# Altium footprint library uSD.PcbLib: 1 footprints
Each footprint in its own frame and in the unit in brackets; x right, y up, seen from the top. Pads: shape width x height; smd on the part's side, far side on the other; paste and mask are expansions set on the pad; w line width, h text height; cw(c..) or ccw(c..) is an arc to the next point about the centre after c.
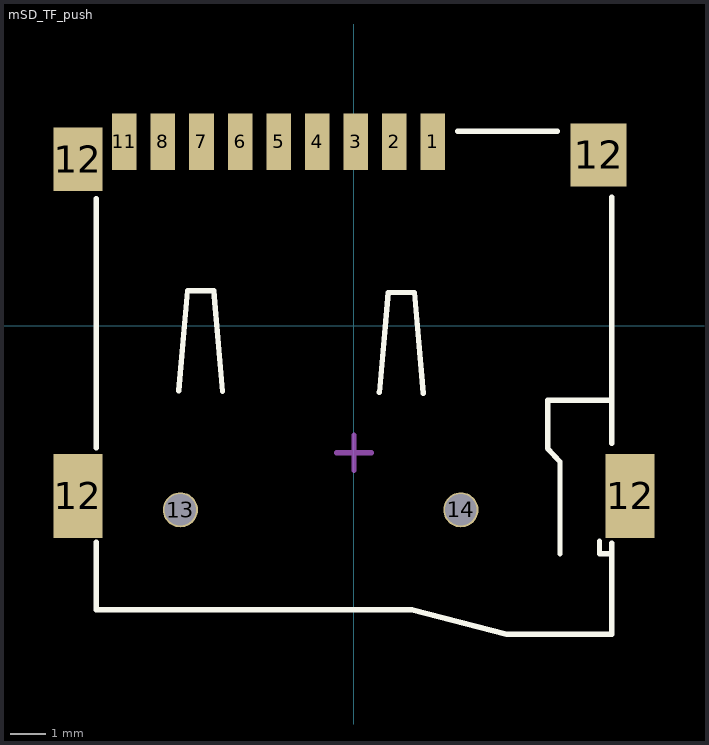
[diagram p0: the footprint, top view; thin cyan lines are the x and y axes]

## mSD_TF_push [mm]
pads (15):
  rect 0.7x1.6 smd: 1(2.25,5.25) 2(1.15,5.25) 3(0.05,5.25) 4(-1.05,5.25) 5(-2.15,5.25) 6(-3.25,5.25) 7(-4.35,5.25) 8(-5.45,5.25) 11(-6.55,5.25)
  rect 1.4x2.4 smd: 12(-7.875,-4.85) 12(7.875,-4.85)
  rect 1.4x1.8 smd: 12(-7.875,4.75)
  rect 1.6x1.8 smd: 12(6.975,4.875)
  round 1 hole 0.9: 13(-4.95,-5.25) 14(3.05,-5.25)
Top Overlay:
  lines w0.152: -7.35,-6.175 -7.35,-8.1 1.65,-8.1 4.35,-8.8 7.35,-8.8 7.35,-6.2 ; -7.35,-3.475 -7.35,3.625 ; -5,-1.85 -4.75,1 -4,1 -3.75,-1.875 ; 0.725,-1.9 0.975,0.95 1.725,0.95 1.975,-1.925 ; 2.95,5.55 5.8,5.55 ; 5.875,-6.5 5.875,-3.875 5.525,-3.5 5.525,-2.125 7.35,-2.125 ; 7,-6.15 7,-6.5 7.35,-6.5 ; 7.35,-3.35 7.35,3.675
Mechanical 16:
  lines w0.152: -0.5,-3.625 0.5,-3.625 ; 0,-4.125 0,-3.125
3D body: height 1.85, standoff 0, extent -8.05,-8.774 8.05,5.726